# EAGLE library part LY3200ALH (library LinnesLab-Sensors)
Eagle model for the LY3200ALH Gyroscope. Pins and model are done from a top-view.
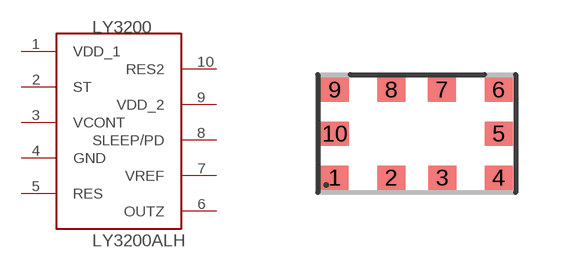
[diagram p24: symbol with the pads of LY3200ALH; footprint LY3200ALH]

Designator prefix LY3200

## LY3200ALHSMD  [LY3200ALH]
1  VDD_1
2  ST
3  VCONT
4  GND
5  RES  nc
6  OUTZ
7  VREF
8  SLEEP/PD
9  VDD_2
10  RES2  nc

## Footprint LY3200ALH (pad centres in mm)
smd 0.7 x 0.6: 1 -2.055,-1.1; 2 -0.635,-1.1; 3 0.64,-1.1; 4 2.05,-1.1; 5 2.05,0; 6 2.05,1.1; 7 0.635,1.1; 8 -0.635,1.1; 9 -2.05,1.1; 10 -2.05,0